# Altium footprint library PcbLib.PcbLib: 13 footprints
Each footprint in its own frame and in the unit in brackets; x right, y up, seen from the top. Pads: shape width x height; smd on the part's side, far side on the other; paste and mask are expansions set on the pad; w line width, h text height; cw(c..) or ccw(c..) is an arc to the next point about the centre after c.
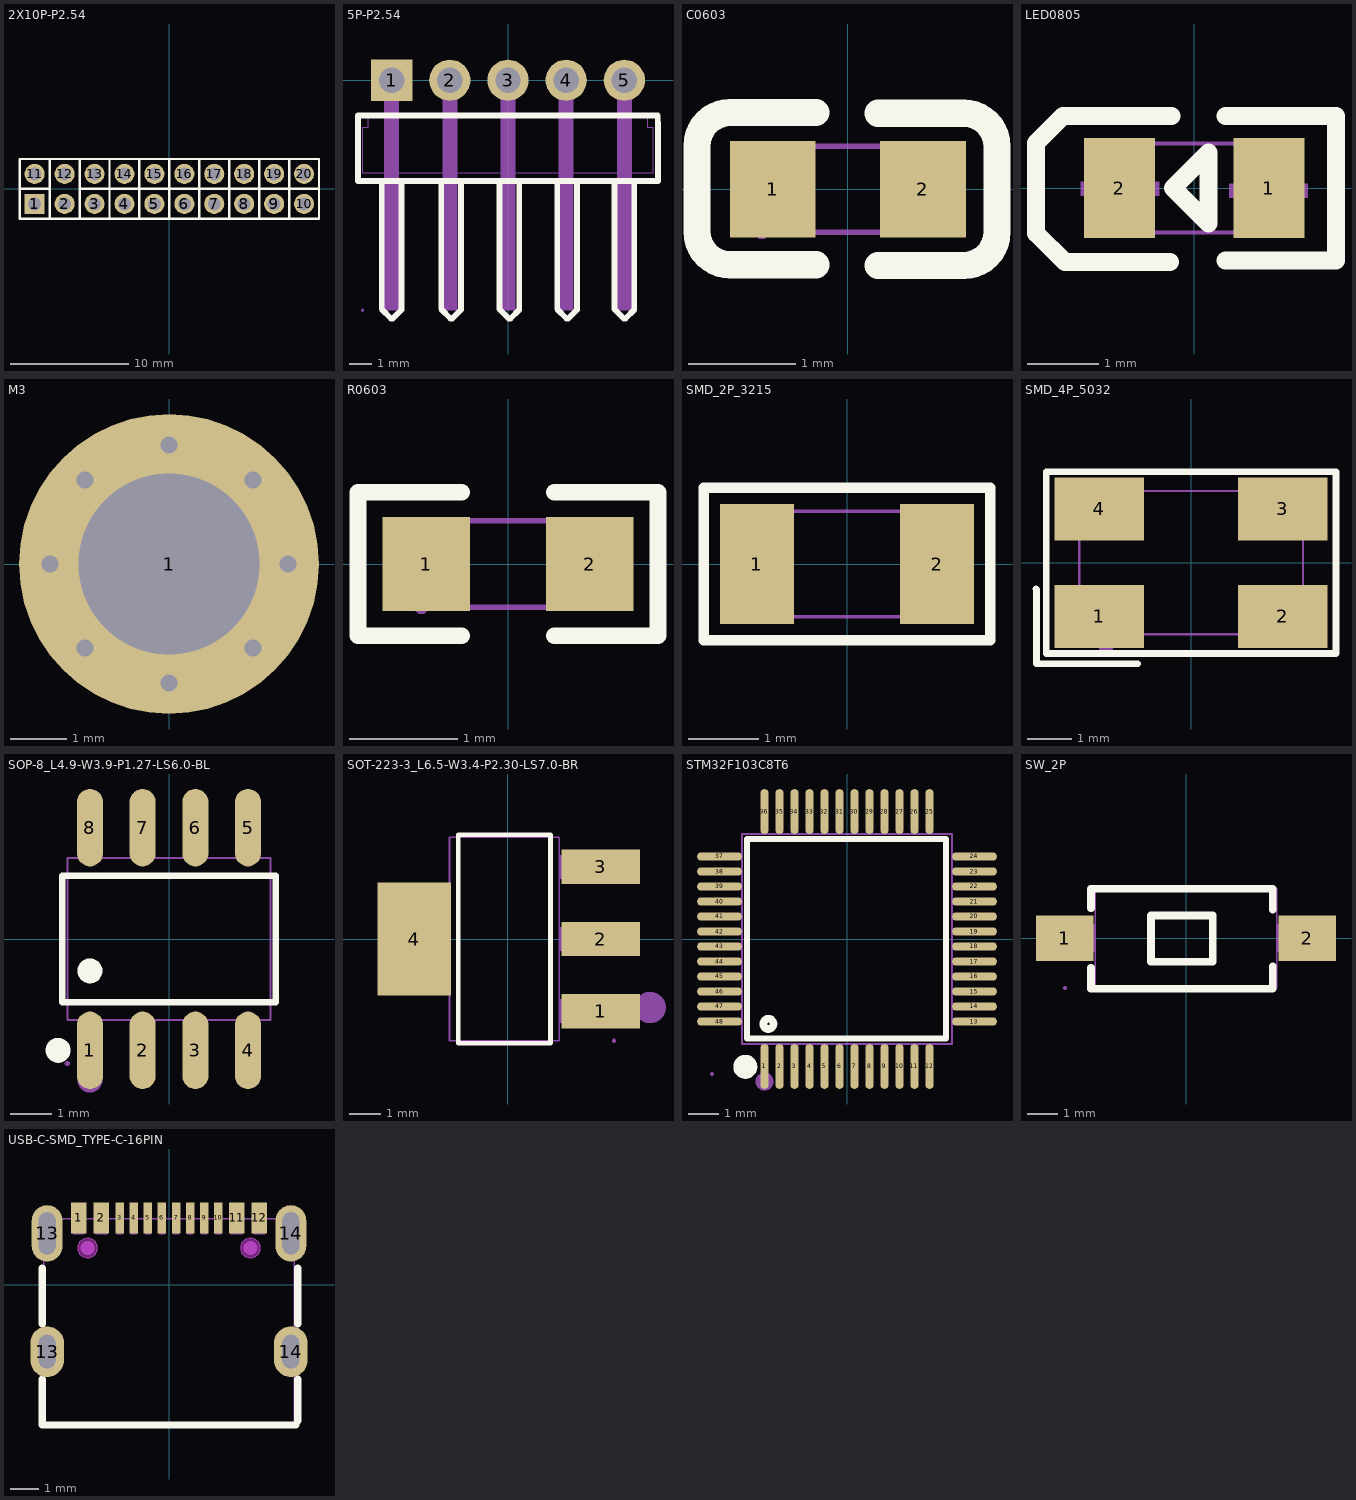
[diagram p0: the footprints below, top view; thin cyan lines are the x and y axes]

## 2X10P-P2.54 [mm]
pads (20):
  rect 1.7x1.7 hole 1.1: 1(-11.43,-1.27)
  round 1.7 hole 1.1: 2(-8.89,-1.27) 3(-6.35,-1.27) 4(-3.81,-1.27) 5(-1.27,-1.27) 6(1.27,-1.27) 7(3.81,-1.27) 8(6.35,-1.27) 9(8.89,-1.27) 10(11.43,-1.27) 11(-11.43,1.27) 12(-8.89,1.27) 13(-6.35,1.27) 14(-3.81,1.27) 15(-1.27,1.27) 16(1.27,1.27) 17(3.81,1.27) 18(6.35,1.27) 19(8.89,1.27) 20(11.43,1.27)
Top Overlay:
  lines w0.203: -12.7,0 -10.16,0 ; -10.16,-2.54 -10.16,2.54 ; -7.62,-2.54 -7.62,2.54 ; -7.62,0 12.7,0 ; -5.08,-2.54 -5.08,2.54 ; -2.54,-2.54 -2.54,2.54 ; 0,-2.54 0,2.54 ; 2.54,-2.54 2.54,2.54 ; 5.08,-2.54 5.08,2.54 ; 7.62,-2.54 7.62,2.54 ; 10.16,-2.54 10.16,2.54 ; -12.7,-2.54 -10.795,-2.54 12.7,-2.54 12.7,2.54 -10.795,2.54 -12.7,2.54 -12.7,-2.54
Mechanical 15:
  region: -12.64,-2.5 -12.64,-2.475 -12.675,-2.44 -12.725,-2.44 -12.76,-2.475 -12.76,-2.5 -12.76,-2.525 -12.725,-2.56 -12.675,-2.56 -12.64,-2.525
  region: -11.75,-0.95 -11.11,-0.95 -11.11,-1.59 -11.75,-1.59
  region: -11.75,1.59 -11.11,1.59 -11.11,0.95 -11.75,0.95
  region: -9.21,-0.95 -8.57,-0.95 -8.57,-1.59 -9.21,-1.59
  region: -9.21,1.59 -8.57,1.59 -8.57,0.95 -9.21,0.95
  region: -6.67,-0.95 -6.03,-0.95 -6.03,-1.59 -6.67,-1.59
  region: -6.67,1.59 -6.03,1.59 -6.03,0.95 -6.67,0.95
  region: -4.13,-0.95 -3.49,-0.95 -3.49,-1.59 -4.13,-1.59
  region: -4.13,1.59 -3.49,1.59 -3.49,0.95 -4.13,0.95
  region: -1.59,-0.95 -0.95,-0.95 -0.95,-1.59 -1.59,-1.59
  region: -1.59,1.59 -0.95,1.59 -0.95,0.95 -1.59,0.95
  region: 0.95,-0.95 1.59,-0.95 1.59,-1.59 0.95,-1.59
  region: 0.95,1.59 1.59,1.59 1.59,0.95 0.95,0.95
  region: 3.49,-0.95 4.13,-0.95 4.13,-1.59 3.49,-1.59
  region: 3.49,1.59 4.13,1.59 4.13,0.95 3.49,0.95
  region: 6.03,-0.95 6.67,-0.95 6.67,-1.59 6.03,-1.59
  region: 6.03,1.59 6.67,1.59 6.67,0.95 6.03,0.95
  region: 8.57,-0.95 9.21,-0.95 9.21,-1.59 8.57,-1.59
  region: 8.57,1.59 9.21,1.59 9.21,0.95 8.57,0.95
  region: 11.11,-0.95 11.75,-0.95 11.75,-1.59 11.11,-1.59
  region: 11.11,1.59 11.75,1.59 11.75,0.95 11.11,0.95
  lines w0.051: -12.7,-2.5 -12.7,2.5 12.7,2.5 12.7,-2.5 -12.7,-2.5

## 5P-P2.54 [mm]
pads (5):
  rect 1.8x1.8 hole 1.1: 1(-5.08,0)
  round 1.8 hole 1.1: 2(-2.54,0) 3(0,0) 4(2.54,0) 5(5.08,0)
Top Overlay:
  lines w0.254: -5.107,-10.4 -5.511,-9.996 ; -5.031,-10.4 -4.65,-10.019 ; -2.911,-4.4 -2.911,-9.996 -2.507,-10.4 ; -2.431,-10.4 -2.05,-10.019 -2.05,-4.4 ; 0.032,-10.4 -0.372,-9.996 ; 0.108,-10.4 0.489,-10.019 ; 2.15,-4.4 2.15,-9.996 2.554,-10.4 ; 2.63,-10.4 3.011,-10.019 3.011,-4.4 ; 4.65,-4.4 4.65,-9.996 5.054,-10.4 ; 5.13,-10.4 5.511,-10.019 5.511,-4.4 ; 6.54,-1.86 6.54,-1.54 -6.55,-1.54 -6.55,-1.86 -6.55,-4.4 6.55,-4.4 6.55,-1.86 ; -5.511,-9.996 -5.511,-4.4 -5.511,-9.996 ; -4.65,-10.019 -4.65,-4.4 -4.65,-10.019 ; -0.372,-9.996 -0.372,-4.4 -0.372,-9.996 ; 0.489,-10.019 0.489,-4.4 0.489,-10.019
Mechanical 6:
  region: -4.76,-4.05 -4.76,-10.05 -5.4,-10.05 -5.4,-4.05
  region: -2.22,-4.05 -2.22,-10.05 -2.86,-10.05 -2.86,-4.05
  region: 0.32,-4.05 0.32,-10.05 -0.32,-10.05 -0.32,-4.05
  region: 2.86,-4.05 2.86,-10.05 2.22,-10.05 2.22,-4.05
  region: 5.4,-4.05 5.4,-10.05 4.76,-10.05 4.76,-4.05
Mechanical 15:
  region: 4.76,0.32 5.4,0.32 5.4,-10.04 5.39,-10.05 4.76,-10.05
  region: 2.22,0.32 2.86,0.32 2.86,-10.04 2.85,-10.05 2.22,-10.05
  region: -0.32,0.32 0.32,0.32 0.32,-10.04 0.31,-10.05 -0.32,-10.05
  region: -2.86,0.32 -2.22,0.32 -2.22,-10.04 -2.23,-10.05 -2.86,-10.05
  region: -5.4,0.32 -4.76,0.32 -4.76,-10.04 -4.77,-10.05 -5.4,-10.05
  region: 4.76,0.32 5.4,0.32 5.4,-0.32 4.76,-0.32
  region: -5.4,0.32 -4.76,0.32 -4.76,-0.32 -5.4,-0.32
  region: -2.86,0.32 -2.22,0.32 -2.22,-0.32 -2.86,-0.32
  region: -0.32,0.32 0.32,0.32 0.32,-0.32 -0.32,-0.32
  region: 2.22,0.32 2.86,0.32 2.86,-0.32 2.22,-0.32
  region: -6.29,-10.05 -6.29,-10.025 -6.325,-9.99 -6.375,-9.99 -6.41,-10.025 -6.41,-10.05 -6.41,-10.075 -6.375,-10.11 -6.325,-10.11 -6.29,-10.075
  lines w0.051: -6.35,-4.05 -6.35,-2.06 -6.34,-2.05 -6.1,-2.05 -6.1,-1.55 -5.4,-1.55 6.1,-1.55 6.1,-2.05 6.35,-2.05 6.35,-4.05 5.4,-4.05 4.76,-4.05 2.86,-4.05 2.22,-4.05 0.32,-4.05 -0.32,-4.05 -2.22,-4.05 -2.86,-4.05 -4.76,-4.05 -5.4,-4.06 -5.41,-4.05 -6.35,-4.05

## C0603 [mm]
pads (2):
  rect 0.8x0.9 smd: 1(-0.7,0) 2(0.7,0)
Top Overlay:
  lines w0.254: -0.296,-0.704 -1.096,-0.704 cw(c-1.096,-0.394) -1.406,-0.394 -1.405,0.406 cw(c-1.096,0.406) -1.096,0.715 -0.296,0.715 ; 0.28,-0.71 1.08,-0.71 ccw(c1.08,-0.4) 1.39,-0.4 1.39,0.4 ccw(c1.08,0.4) 1.08,0.71 0.28,0.71
Mechanical 15:
  region: -0.74,-0.4 -0.74,-0.375 -0.775,-0.34 -0.825,-0.34 -0.86,-0.375 -0.86,-0.4 -0.86,-0.425 -0.825,-0.46 -0.775,-0.46 -0.74,-0.425
  region: 0.8,-0.4 0.8,0.4 0.5,0.4 0.5,-0.4
  region: -0.8,-0.4 -0.8,0.4 -0.5,0.4 -0.5,-0.4
  lines w0.051: -0.8,-0.4 0.8,-0.4 0.8,0.4 -0.8,0.4 -0.8,-0.4

## LED0805 [mm]
pads (2):
  rect 1x1.4 smd: 1(1.05,0) 2(-1.05,0)
Top Overlay:
  lines w0.254: -0.344,-1.043 -1.817,-1.043 -2.224,-0.636 -2.224,0.634 -1.843,1.015 -0.319,1.015 ; 0.443,-1.017 1.993,-1.017 1.993,1.015 0.443,1.015 ; -0.3,0 -0.2,-0.1 0.2,-0.5 0.2,0.5 -0.2,0.1 -0.3,0
Mechanical 6:
  region: -0.494,-0.109 -1.594,-0.109 -1.594,0.091 -0.494,0.091
  region: 0.494,0.06 1.594,0.06 1.594,-0.14 0.494,-0.14
  region: 0.941,-0.556 0.941,0.544 1.141,0.544 1.141,-0.556
Mechanical 15:
  region: -0.6,-0.625 -1,-0.625 -1,0.625 -0.6,0.625
  region: 1,-0.625 0.6,-0.625 0.6,0.625 1,0.625
  region: 1.06,0.625 1.059,0.65 1.024,0.684 0.976,0.684 0.941,0.65 0.94,0.625 0.941,0.601 0.976,0.566 1.024,0.566 1.059,0.601
  lines w0.051: -1,-0.625 1,-0.625 1,0.625 -1,0.625 -1,-0.625

## M3 [mm]
pads (1):
  round 5.3 hole 3.2: 1(0,0)
via -1.485,-1.485 diameter 0.5 hole 0.3
via -1.485,1.485 diameter 0.5 hole 0.3
via 1.485,1.485 diameter 0.5 hole 0.3
via 2.1,0 diameter 0.5 hole 0.3
via 1.485,-1.485 diameter 0.5 hole 0.3
via 0,-2.1 diameter 0.5 hole 0.3
via 0,2.1 diameter 0.5 hole 0.3
via -2.1,0 diameter 0.5 hole 0.3

## R0603 [mm]
pads (2):
  rect 0.806x0.864 smd paste-100 mask+0.051: 1(-0.753,0) 2(0.753,0)
Top Overlay:
  lines w0.152: -0.426,-0.661 -1.385,-0.661 -1.385,0.661 -0.426,0.661 ; 0.426,-0.661 1.385,-0.661 1.385,0.661 0.426,0.661
Top Paste:
  region: -0.355,0.4 -0.355,0.172 -0.735,0.172 -0.735,-0.158 -0.355,-0.158 -0.355,-0.4 -0.405,-0.45 -1.195,-0.45 -1.245,-0.4 -1.245,0.4 -1.195,0.45 -0.405,0.45
  region: 1.195,0.45 0.395,0.45 0.345,0.4 0.345,0.172 0.715,0.172 0.715,-0.158 0.345,-0.158 0.345,-0.4 0.395,-0.45 1.195,-0.45 1.245,-0.4 1.245,0.4
Mechanical 15:
  region: -0.74,-0.4 -0.74,-0.375 -0.775,-0.34 -0.825,-0.34 -0.86,-0.375 -0.86,-0.4 -0.86,-0.425 -0.825,-0.46 -0.775,-0.46 -0.74,-0.425
  region: 0.8,-0.4 0.8,0.4 0.5,0.4 0.5,-0.4
  region: -0.8,-0.4 -0.8,0.4 -0.5,0.4 -0.5,-0.4
  lines w0.051: -0.8,-0.4 0.8,-0.4 0.8,0.4 -0.8,0.4 -0.8,-0.4

## SMD_2P_3215 [mm]
pads (2):
  rect 1.05x1.7 smd: 1(-1.275,0) 2(1.275,0)
Top Overlay:
  lines w0.152: -2.029,-1.079 2.029,-1.079 2.029,1.079 -2.029,1.079 -2.029,-1.079
Mechanical 15:
  region: 0.85,-0.75 0.85,0.75 1.5,0.75 1.5,-0.75
  region: -0.85,-0.75 -0.85,0.75 -1.5,0.75 -1.5,-0.75
  region: -1.54,-0.75 -1.541,-0.726 -1.576,-0.693 -1.624,-0.693 -1.659,-0.726 -1.66,-0.75 -1.659,-0.774 -1.624,-0.807 -1.576,-0.807 -1.541,-0.774
  lines w0.051: -1.6,-0.75 1.6,-0.75 1.6,0.75 -1.6,0.75 -1.6,-0.75

## SMD_4P_5032 [mm]
pads (4):
  rect 2x1.4 smd: 1(-2.05,-1.2) 2(2.05,-1.2) 3(2.05,1.2) 4(-2.05,1.2)
Top Overlay:
  lines w0.152: -3.463,-0.59 -3.454,-0.599 -3.454,-2.258 -3.256,-2.258 -1.199,-2.258 ; -3.236,-2.029 -3.236,2.029 3.236,2.029 3.236,-2.029 -3.028,-2.029 -3.236,-2.029
Mechanical 6:
  circle w0.2: c-1.9,-1.8 r0.1
Mechanical 15:
  region: -2.5,-0.699 -1.3,-0.699 -1.3,-1.599 -2.5,-1.599
  region: 1.3,-0.699 2.5,-0.699 2.5,-1.599 1.3,-1.599
  region: 1.3,1.599 2.5,1.599 2.5,0.699 1.3,0.699
  region: -2.5,1.599 -1.3,1.599 -1.3,0.699 -2.5,0.699
  region: -2.44,-1.6 -2.441,-1.576 -2.476,-1.542 -2.524,-1.542 -2.559,-1.576 -2.56,-1.6 -2.559,-1.624 -2.524,-1.658 -2.476,-1.658 -2.441,-1.624
  lines w0.051: -2.5,-1.6 2.5,-1.6 2.5,1.6 -2.5,1.6 -2.5,-1.6

## SOP-8_L4.9-W3.9-P1.27-LS6.0-BL [mm]
pads (8):
  oval 0.63x1.865 smd: 1(-1.905,-2.682) 2(-0.635,-2.682) 3(0.635,-2.682) 4(1.905,-2.682) 5(1.905,2.682) 6(0.635,2.682) 7(-0.635,2.682) 8(-1.905,2.682)
Top Overlay:
  circle w0.3: c-1.905,-0.769 r0.15
  circle w0.3: c-2.672,-2.682 r0.15
  lines w0.152: -2.576,-1.521 -2.576,1.521 2.576,1.521 2.576,-1.521 -2.576,-1.521
Mechanical 6:
  circle w0.3: c-1.905,-3.4 r0.15
Mechanical 15:
  region: -2.39,-3 -2.391,-2.976 -2.426,-2.941 -2.475,-2.941 -2.51,-2.976 -2.51,-3 -2.51,-3.025 -2.475,-3.059 -2.426,-3.059 -2.391,-3.024
  region: 1.695,1.94 1.695,2.175 2.115,2.175 2.115,1.94
  region: 1.695,2.165 1.695,3 2.115,3 2.115,2.165
  region: 0.425,1.94 0.425,2.175 0.845,2.175 0.845,1.94
  region: 0.425,2.165 0.425,3 0.845,3 0.845,2.165
  region: -0.845,1.94 -0.845,2.175 -0.425,2.175 -0.425,1.94
  region: -0.845,2.165 -0.845,3 -0.425,3 -0.425,2.165
  region: -2.115,1.94 -2.115,2.175 -1.695,2.175 -1.695,1.94
  region: -2.115,2.165 -2.115,3 -1.695,3 -1.695,2.165
  region: 1.695,-2.175 1.695,-1.94 2.115,-1.94 2.115,-2.175
  region: 1.695,-3 1.695,-2.165 2.115,-2.165 2.115,-3
  region: 0.425,-2.175 0.425,-1.94 0.845,-1.94 0.845,-2.175
  region: 0.425,-3 0.425,-2.165 0.845,-2.165 0.845,-3
  region: -0.845,-2.175 -0.845,-1.94 -0.425,-1.94 -0.425,-2.175
  region: -0.845,-3 -0.845,-2.165 -0.425,-2.165 -0.425,-3
  region: -2.115,-2.175 -2.115,-1.94 -1.695,-1.94 -1.695,-2.175
  region: -2.115,-3 -2.115,-2.165 -1.695,-2.165 -1.695,-3
  lines w0.051: -2.45,-1.95 -2.45,1.95 2.45,1.95 2.45,-1.95 -2.45,-1.95

## SOT-223-3_L6.5-W3.4-P2.30-LS7.0-BR [mm]
pads (4):
  rect 2.5x1.1 smd: 1(2.97,-2.3) 2(2.97,0) 3(2.97,2.3)
  rect 2.34x3.6 smd: 4(-2.97,0)
Top Overlay:
  lines w0.152: -1.571,-3.326 -1.571,3.326 1.371,3.326 1.371,-3.326 -1.571,-3.326
Mechanical 6:
  circle w0.5: c4.552,-2.188 r0.25
Mechanical 15:
  region: 3.46,-3.25 3.46,-3.225 3.425,-3.19 3.375,-3.19 3.34,-3.225 3.34,-3.25 3.34,-3.275 3.375,-3.31 3.425,-3.31 3.46,-3.275
  region: 1.64,1.925 1.64,2.675 2.66,2.675 2.66,1.925
  region: 2.65,1.925 2.65,2.675 3.4,2.675 3.4,1.925
  region: 1.64,-0.375 1.64,0.375 2.66,0.375 2.66,-0.375
  region: 2.65,-0.375 2.65,0.375 3.4,0.375 3.4,-0.375
  region: 1.64,-2.675 1.64,-1.925 2.66,-1.925 2.66,-2.675
  region: 2.65,-2.675 2.65,-1.925 3.4,-1.925 3.4,-2.675
  region: -2.86,-1.5 -2.86,1.5 -1.84,1.5 -1.84,-1.5
  region: -3.6,-1.5 -3.6,1.5 -2.85,1.5 -2.85,-1.5
  lines w0.051: -1.85,-3.25 -1.85,3.25 1.65,3.25 1.65,-3.25 -1.85,-3.25

## STM32F103C8T6 [mm]
pads (48):
  oval 0.27x1.5 smd paste+0 mask+0.05: 1(-2.75,-4.25) 2(-2.25,-4.25) 3(-1.75,-4.25) 4(-1.25,-4.25) 5(-0.75,-4.25) 6(-0.25,-4.25) 7(0.25,-4.25) 8(0.75,-4.25) 9(1.25,-4.25) 10(1.75,-4.25) 11(2.25,-4.25) 12(2.75,-4.25) 25(2.75,4.25) 26(2.25,4.25) 27(1.75,4.25) 28(1.25,4.25) 29(0.75,4.25) 30(0.25,4.25) 31(-0.25,4.25) 32(-0.75,4.25) 33(-1.25,4.25) 34(-1.75,4.25) 35(-2.25,4.25) 36(-2.75,4.25)
  oval 1.5x0.27 smd paste+0 mask+0.05: 13(4.25,-2.75) 14(4.25,-2.25) 15(4.25,-1.75) 16(4.25,-1.25) 17(4.25,-0.75) 18(4.25,-0.25) 19(4.25,0.25) 20(4.25,0.75) 21(4.25,1.25) 22(4.25,1.75) 23(4.25,2.25) 24(4.25,2.75) 37(-4.25,2.75) 38(-4.25,2.25) 39(-4.25,1.75) 40(-4.25,1.25) 41(-4.25,0.75) 42(-4.25,0.25) 43(-4.25,-0.25) 44(-4.25,-0.75) 45(-4.25,-1.25) 46(-4.25,-1.75) 47(-4.25,-2.25) 48(-4.25,-2.75)
Top Overlay:
  circle w0.254: c-2.62,-2.83 r0.17
  lines w0.2: -2.896,3.34 3.302,3.34 3.302,-3.315 -3.327,-3.315 -3.327,3.34 -2.565,3.34
  lines w0.4: -3.39,-4.06 ccw(c-3.389,-4.26) -3.387,-4.06
Mechanical 6:
  circle w0.3: c-2.75,-4.75 r0.15
Mechanical 15:
  drawing of 101 lines, arcs and shapes, not listed

## SW_2P [mm]
pads (2):
  rect 1.9x1.5 smd: 1(-4,0) 2(4,0)
Top Overlay:
  lines w0.254: -3.137,-0.981 -3.137,-1.668 2.863,-1.668 2.863,-0.935 ; -3.137,0.981 -3.137,1.632 2.863,1.632 2.863,0.935 ; -1.153,-0.78 -1.153,0.744 0.879,0.744 0.879,-0.78 -1.153,-0.78
Mechanical 15:
  region: -3.62,-0.45 -3.62,0.45 -2.99,0.45 -2.99,-0.45
  region: 3.62,0.45 3.62,-0.45 2.99,-0.45 2.99,0.45
  region: 3.3,-0.45 3.3,0.45 4,0.45 4,-0.45
  region: -3.999,-0.45 -3.999,0.45 -3.299,0.45 -3.299,-0.45
  region: -3.939,-1.65 -3.94,-1.626 -3.975,-1.593 -4.023,-1.593 -4.058,-1.626 -4.059,-1.65 -4.058,-1.674 -4.023,-1.707 -3.975,-1.707 -3.94,-1.674
  lines w0.051: -3,-1.65 3,-1.65 3,1.65 -3,1.65 -3,-1.65

## USB-C-SMD_TYPE-C-16PIN [mm]
pads (16):
  rect 0.55x1.1 smd paste-100 mask+0.05: 1(-3.2,2.375) 2(-2.4,2.375) 11(2.4,2.375) 12(3.2,2.375)
  rect 0.3x1.1 smd paste-100 mask+0.05: 3(-1.75,2.375) 4(-1.25,2.375) 5(-0.75,2.375) 6(-0.25,2.375) 7(0.25,2.375) 8(0.75,2.375) 9(1.25,2.375) 10(1.75,2.375)
  oval 1.1x2 hole 0.6 slot 1.5 at 90 deg paste+0 mask+0.05: 13(-4.325,1.825) 14(4.325,1.825)
  oval 1.2x1.8 hole 0.6 slot 1.2 at 90 deg paste+0 mask+0.05: 13(-4.325,-2.375) 14(4.325,-2.375)
Top Overlay:
  lines w0.254: -4.5,-3.356 -4.5,-4.975 4.5,-4.975 ; -4.5,-1.394 -4.5,0.594 ; 4.572,-4.826 4.572,-3.353 ; 4.572,-1.397 4.572,0.597
Top Paste:
  drawing of 16 lines, arcs and shapes, not listed
Keep-Out Layer:
  board cut-out: -2.54,1.305 -2.541,1.374 -2.595,1.5 -2.694,1.597 -2.821,1.649 -2.959,1.649 -3.086,1.597 -3.184,1.5 -3.239,1.374 -3.24,1.305 -3.239,1.236 -3.184,1.11 -3.086,1.013 -2.959,0.961 -2.821,0.961 -2.694,1.013 -2.595,1.11 -2.541,1.236
  board cut-out: 3.24,1.305 3.239,1.374 3.185,1.5 3.086,1.597 2.959,1.649 2.821,1.649 2.694,1.597 2.596,1.5 2.541,1.374 2.54,1.305 2.541,1.236 2.596,1.11 2.694,1.013 2.821,0.961 2.959,0.961 3.086,1.013 3.185,1.11 3.239,1.236
Mechanical 1:
  circle w0.005: c-2.89,1.305 r0.35
  circle w0.005: c2.89,1.305 r0.35
Mechanical 6:
  circle w0.25: c-2.89,1.305 r0.125
  circle w0.25: c2.89,1.305 r0.125
Mechanical 15:
  region: -4.39,2.649 -4.39,2.674 -4.425,2.709 -4.475,2.709 -4.51,2.674 -4.51,2.649 -4.51,2.624 -4.475,2.589 -4.425,2.589 -4.39,2.624
  region: -1.85,2.649 -1.65,2.649 -1.65,1.799 -1.85,1.799
  region: -0.85,2.649 -0.65,2.649 -0.65,1.799 -0.85,1.799
  region: -1.35,2.649 -1.15,2.649 -1.15,1.799 -1.35,1.799
  region: -0.35,2.649 -0.15,2.649 -0.15,1.799 -0.35,1.799
  region: 0.15,2.649 0.35,2.649 0.35,1.799 0.15,1.799
  region: 0.65,2.649 0.85,2.649 0.85,1.799 0.65,1.799
  region: 1.15,2.649 1.35,2.649 1.35,1.799 1.15,1.799
  region: 1.65,2.649 1.85,2.649 1.85,1.799 1.65,1.799
  region: -3.4,2.649 -3,2.649 -3,1.799 -3.4,1.799
  region: -2.6,2.649 -2.2,2.649 -2.2,1.799 -2.6,1.799
  region: 2.2,2.649 2.6,2.649 2.6,1.799 2.2,1.799
  region: 3,2.649 3.4,2.649 3.4,1.799 3,1.799
  region: -4.45,2.349 -4.2,2.349 -4.2,1.249 -4.45,1.249
  region: 4.2,2.349 4.45,2.349 4.45,1.249 4.2,1.249
  region: -4.45,-2.025 -4.2,-2.025 -4.2,-2.725 -4.45,-2.725
  region: 4.2,-2.025 4.45,-2.025 4.45,-2.725 4.2,-2.725
  lines w0.051: -4.45,-5.001 -4.45,2.349 4.45,2.349 4.45,-5.001 -4.45,-5.001